# Altium schematic symbol library 685119136923.Schlib: 1 symbol
Pins are listed as number, name and electrical type; pins without a type are passive.

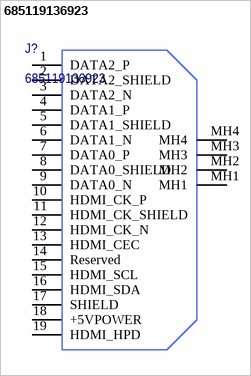
[diagram p0: symbol 685119136923]

## 685119136923
designator J?
pins: 1 DATA2_P, 2 DATA2_SHIELD, 3 DATA2_N, 4 DATA1_P, 5 DATA1_SHIELD, 6 DATA1_N, 7 DATA0_P, 8 DATA0_SHIELD, 9 DATA0_N, 10 HDMI_CK_P, 11 HDMI_CK_SHIELD, 12 HDMI_CK_N, 13 HDMI_CEC, 14 Reserved, 15 HDMI_SCL, 16 HDMI_SDA, 17 SHIELD, 18 +5VPOWER (power), 19 HDMI_HPD "hot plug detect", MH1, MH2, MH3, MH4